# Altium schematic symbol library Connectors-Power.SchLib: 2 symbols
Pins are listed as number, name and electrical type; pins without a type are passive.

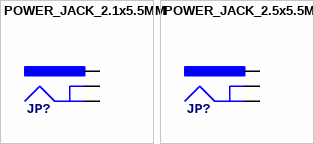
[diagram p0: symbols POWER_JACK_2.1x5.5MM to POWER_JACK_2.5x5.5MM]

## POWER_JACK_2.1x5.5MM
designator JP?
Manufacturer: CUI Inc.; PartNumber: PJ-036AH-SMT-TR; Mounting Technology: Surface Mount; PackageReference: 2X5.5MM
footprint POWER-JACK-2.1X5.5MM-SMD
pins: 1 PWR, 2 GND, 3 GND

## POWER_JACK_2.5x5.5MM
designator JP?
Manufacturer: CUI Inc.; PartNumber: PJ-002BH-SMT-TR; Mounting Technology: Surface Mount; PackageReference: 2.5X5.5MM
footprint POWER-JACK-2.5X5.5MM-SMD
pins: 1 PWR, 2 GND, 3 GND